# Altium schematic symbol library JC-ESP32P4-M3.SCHLIB: 1 symbol
Pins are listed as number, name and electrical type; pins without a type are passive.

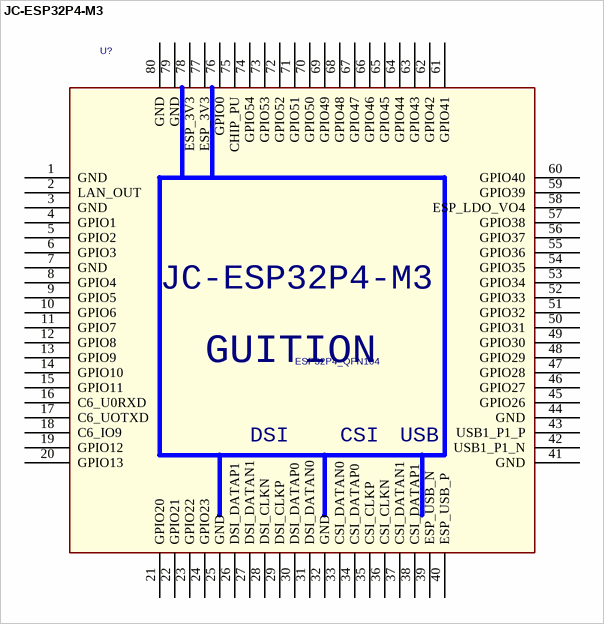
[diagram p0: symbol JC-ESP32P4-M3]

## JC-ESP32P4-M3
designator U?, comment ESP32P4_QFN104
footprint JC-ESP32P4-M3_V0.2
pins: 1 GND, 2 LAN_OUT, 3 GND, 4 GPIO1, 5 GPIO2, 6 GPIO3, 7 GND, 8 GPIO4, 9 GPIO5, 10 GPIO6, 11 GPIO7, 12 GPIO8, 13 GPIO9, 14 GPIO10, 15 GPIO11, 16 C6_U0RXD, 17 C6_UOTXD, 18 C6_IO9, 19 GPIO12, 20 GPIO13, 21 GPIO20, 22 GPIO21, 23 GPIO22, 24 GPIO23, 25 GND, 26 DSI_DATAP1, 27 DSI_DATAN1, 28 DSI_CLKN, 29 DSI_CLKP, 30 DSI_DATAP0, 31 DSI_DATAN0, 32 GND, 33 CSI_DATAN0, 34 CSI_DATAP0, 35 CSI_CLKP, 36 CSI_CLKN, 37 CSI_DATAN1, 38 CSI_DATAP1, 39 ESP_USB_N, 40 ESP_USB_P, 41 GND, 42 USB1_P1_N, 43 USB1_P1_P, 44 GND, 45 GPIO26, 46 GPIO27, 47 GPIO28, 48 GPIO29, 49 GPIO30, 50 GPIO31, 51 GPIO32, 52 GPIO33, 53 GPIO34, 54 GPIO35, 55 GPIO36, 56 GPIO37, 57 GPIO38, 58 ESP_LDO_VO4, 59 GPIO39, 60 GPIO40, 61 GPIO41, 62 GPIO42, 63 GPIO43, 64 GPIO44, 65 GPIO45, 66 GPIO46, 67 GPIO47, 68 GPIO48, 69 GPIO49, 70 GPIO50, 71 GPIO51, 72 GPIO52, 73 GPIO53, 74 GPIO54, 75 CHIP_PU, 76 GPIO0, 77 ESP_3V3, 78 ESP_3V3, 79 GND, 80 GND
text: GUITION; DSI; CSI; USB